# EAGLE library part 05_PINHEAD_1X6 (library femtoduino)
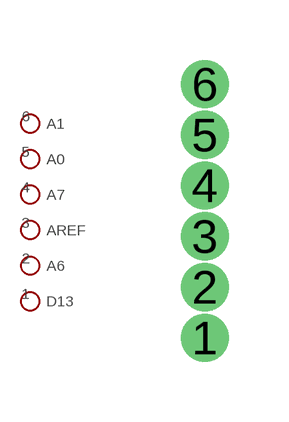
[diagram p1: symbol with the pads of 05_PINHEAD_1X6_PACKAGE; footprint 05_PINHEAD_1X6_PACKAGE]

Designator prefix -

## 05_PINHEAD_1X6  [05_PINHEAD_1X6_PACKAGE]
1  D13
2  A6
3  AREF
4  A7
5  A0
6  A1

## Footprint 05_PINHEAD_1X6_PACKAGE (pad centres in mm)
drill 0.7 pad 1.016: 1 0,0; 2 0,1.27; 3 0,2.54; 4 0,3.81; 5 0,5.08; 6 0,6.35